# EAGLE library part ATMEGA328P-PU (library OPL Eagle Library)
8-bit AVR Microcontroller with 32K Bytes In-System Programmable Flash
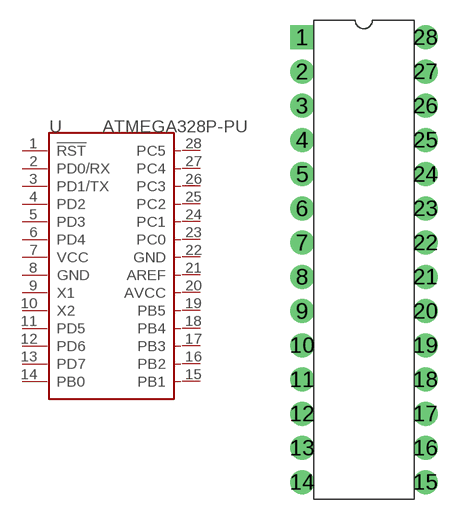
[diagram p0: symbol with the pads of DIP28; footprint DIP28]

Designator prefix U

## ATMEGA328P-PU-1030050P1  [DIP28]
1  !RST
2  PD0/RX
3  PD1/TX
4  PD2
5  PD3
6  PD4
7  VCC
8  GND
9  X1
10  X2
11  PD5
12  PD6
13  PD7
14  PB0
15  PB1
16  PB2
17  PB3
18  PB4
19  PB5
20  AVCC
21  AREF
22  GND
23  PC0
24  PC1
25  PC2
26  PC3
27  PC4
28  PC5

## Footprint DIP28 (pad centres in mm)
drill 1.016 pad 1.778 square: 1 -4.572,16.51
drill 1.016 pad 1.778: 2 -4.572,13.97; 3 -4.572,11.43; 4 -4.572,8.89; 5 -4.572,6.35; 6 -4.572,3.81; 7 -4.572,1.27; 8 -4.572,-1.27; 9 -4.572,-3.81; 10 -4.572,-6.35; 11 -4.572,-8.89; 12 -4.572,-11.43; 13 -4.572,-13.97; 14 -4.572,-16.51; 15 4.572,-16.51; 16 4.572,-13.97; 17 4.572,-11.43; 18 4.572,-8.89; 19 4.572,-6.35; 20 4.572,-3.81; 21 4.572,-1.27; 22 4.572,1.27; 23 4.572,3.81; 24 4.572,6.35; 25 4.572,8.89; 26 4.572,11.43; 27 4.572,13.97; 28 4.572,16.51